# EAGLE library part MIC2250 (library heck)
The MIC2250 is a general purpose DC/DC boost switching regulator that features low noise, EMI reduction circuitry, and high efficiency across a wide output current range.
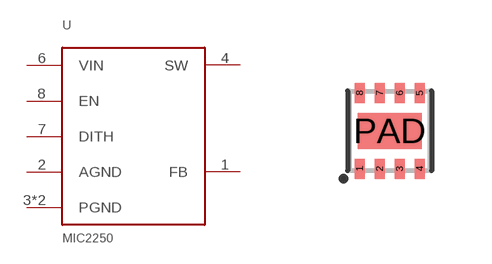
[diagram p40: symbol with the pads of WSON-8-PAD; footprint WSON-8-PAD]

Designator prefix U

## MIC2250ML  [WSON-8-PAD]
1  FB
2  AGND
3  PGND
4  SW
6  VIN
7  DITH
8  EN
PAD  PGND

## Footprint WSON-8-PAD (pad centres in mm)
smd 0.25 x 0.5: 1 -0.75,-0.95; 2 -0.25,-0.95; 3 0.25,-0.95; 4 0.75,-0.95; 5 0.75,0.95; 6 0.25,0.95; 7 -0.25,0.95; 8 -0.75,0.95
smd 1.6 x 0.9: PAD 0,0